# EAGLE library part 618009231221 (library USB_c_conn)
WR-DSUB 8.08mm Male Angled PCB Connector with Hex Screw 9 Pins=>Code : Con_I-O_DSUB_PCB_Male_w-screw_618009231221 <https://katalog.we-online.com/media/images/v2/o33083v209%20Family_WR-DSUB_6180xx231221.jpg> Details see: https://katalog.we-online.com/en/em/DSUB_MALE_ANGLED_PCB_CONNECTOR_W_HEX_SCREW_8_08MM_6180XX231221 Updated by Ella Wu 2019-03-15 2019 (C) Würth Elektronik
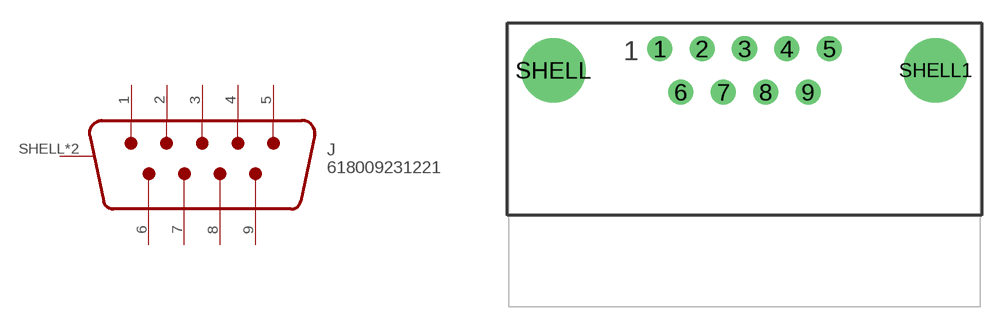
[diagram p16: symbol with the pads of 618009231221; footprint 618009231221]

Designator prefix J

## 618009231221 (WE-NUMBER: 618009231221)  [618009231221]
1  1
2  2
3  3
4  4
5  5
6  6
7  7
8  8
9  9
SHELL  SHIELD
SHELL1  SHIELD

## Footprint 618009231221 (pad centres in mm)
WR-DSUB 8.08mm Male Angled PCB Connector with Hex Screw, 9 Pins
drill 1.09: 1 -5.54,1.42; 2 -2.77,1.42; 3 0,1.42; 4 2.77,1.42; 5 5.54,1.42; 6 -4.155,-1.42; 7 -1.385,-1.42; 8 1.385,-1.42; 9 4.155,-1.42
drill 3.2: SHELL -12.5,0; SHELL1 12.5,0